# EAGLE library part USD_BREAKOUT (library Dek)
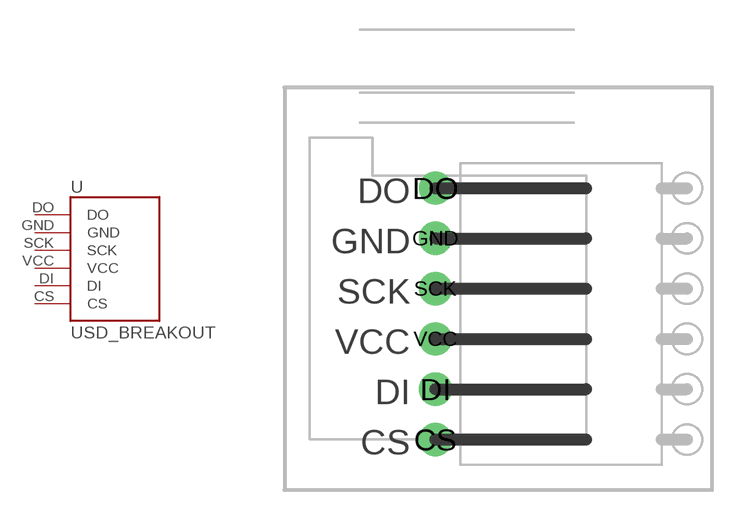
[diagram p0: symbol with the pads of USD_BREAKOUT; footprint USD_BREAKOUT]

Designator prefix -

## USD_BREAKOUTNOCD  [USD_BREAKOUT]
CS  CS
DI  DI
DO  DO
GND  GND
SCK  SCK
VCC  VCC

## Footprint USD_BREAKOUT (pad centres in mm)
drill 0.8 pad 1.676 round: CS 7.62,2.54; DI 7.62,5.08; DO 7.62,15.24; GND 7.62,12.7; SCK 7.62,10.16; VCC 7.62,7.62